# Altium footprint library SOIC.PcbLib: 4 footprints
Each footprint in its own frame and in the unit in brackets; x right, y up, seen from the top. Pads: shape width x height; smd on the part's side, far side on the other; paste and mask are expansions set on the pad; w line width, h text height; cw(c..) or ccw(c..) is an arc to the next point about the centre after c.
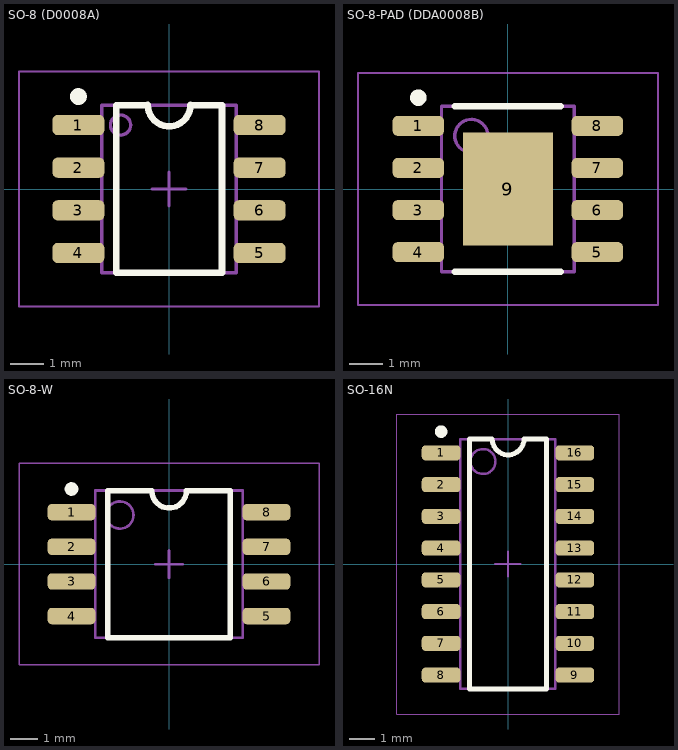
[diagram p0: the footprints below, top view; thin cyan lines are the x and y axes]

## SO-8 (D0008A) [mm] "SOP, 8-Leads, Body 4.91x3.90mm, Pitch 1.27mm, IPC Medium Density"
height 0.25
pads (8):
  rrect50% 1.55x0.6 smd mask+0.05: 1(-2.7,1.905) 2(-2.7,0.635) 3(-2.7,-0.635) 4(-2.7,-1.905) 5(2.7,-1.905) 6(2.7,-0.635) 7(2.7,0.635) 8(2.7,1.905)
Top Overlay:
  circle w0.25: c-2.7,2.755 r0.125
  lines w0.2: 0.639,2.5 1.58,2.5 1.58,-2.5 -1.57,-2.5 -1.57,2.5 -0.631,2.5 -0.631,2.502 ccw(c0.004,2.502) 0.639,2.502
Mechanical 13:
  circle w0.1: c-1.443,1.905 r0.3
  lines w0.1: -2,-2.5 -2,2.5 2,2.5 2,-2.5 -2,-2.5
Mechanical 15:
  lines w0.05: -4.47,-3.5 -4.47,3.5 4.47,3.5 4.47,-3.5 -4.47,-3.5
  lines w0.1: -0.5,0 0.5,0 ; 0,-0.5 0,0.5
3D body "SOP127P600-8N.step": height 1.75, standoff 0, extent -2.997,-2.5 2.997,2.5

## SO-8-PAD (DDA0008B) [mm] "SOP, 8-Leads, Body 4.90x3.90mm, Pitch 1.27mm, Thermal Pad 3.40x2.71mm, IPC Medium Density"
height 0.25
pads (9):
  rrect50% 1.55x0.6 smd mask+0.05: 1(-2.7,1.905) 2(-2.7,0.635) 3(-2.7,-0.635) 4(-2.7,-1.905) 5(2.7,-1.905) 6(2.7,-0.635) 7(2.7,0.635) 8(2.7,1.905)
  rect 2.71x3.4 smd: 9(0,0)
Top Overlay:
  circle w0.25: c-2.7,2.755 r0.125
  lines w0.2: -1.6,-2.5 1.6,-2.5 ; -1.6,2.5 1.6,2.5
Mechanical 13:
  circle w0.1: c-1.1,1.6 r0.5
  lines w0.1: -2,-2.5 -2,2.5 2,2.5 2,-2.5 -2,-2.5
Mechanical 15:
  lines w0.05: -4.52,-3.5 -4.52,3.5 4.53,3.5 4.53,-3.5 -4.52,-3.5
  lines w0.1: -0.5,0 0.5,0 ; 0,-0.5 0,0.5
3D body "SOP127P600-8N.step": height 1.7, standoff 0, extent -2.997,-2.5 2.997,2.5

## SO-8-W [mm] "SO (208-mil), 8-Leads, Body 5.24x5.29mm, Pitch 1.27mm, IPC Medium Density"
height 2.16
pads (8):
  rrect50% 1.75x0.6 smd mask+0.05: 1(-3.575,1.905) 2(-3.575,0.635) 3(-3.575,-0.635) 4(-3.575,-1.905) 5(3.575,-1.905) 6(3.575,-0.635) 7(3.575,0.635) 8(3.575,1.905)
Top Overlay:
  circle w0.25: c-3.575,2.755 r0.125
  lines w0.2: -2.25,-2.7 2.25,-2.7 2.25,2.692 0.639,2.692 cw(c0.004,2.692) -0.631,2.692 -2.25,2.692 -2.25,-2.7
Mechanical 13:
  circle w0.1: c-1.8,1.8 r0.5
  lines w0.1: -2.7,-2.7 2.7,-2.7 2.7,2.7 -2.7,2.7 -2.7,-2.7
Mechanical 15:
  lines w0.05: -5.5,-3.69 5.5,-3.69 5.5,3.7 -5.5,3.7 -5.5,-3.69
  lines w0.1: -0.5,0 0.5,0 ; 0,-0.5 0,0.5
3D body "SO-8-W.step": height 2.16, standoff 0, extent -3.975,-2.7 3.975,2.7

## SO-16N [mm] "SOP, 16-Leads, Body 9.90x3.90mm, Pitch 1.27mm, IPC Medium Density"
height 1.75
pads (16):
  rrect50% 1.55x0.6 smd mask+0.05: 1(-2.675,4.445) 2(-2.675,3.175) 3(-2.675,1.905) 4(-2.675,0.635) 5(-2.675,-0.635) 6(-2.675,-1.905) 7(-2.675,-3.175) 8(-2.675,-4.445) 9(2.675,-4.445) 10(2.675,-3.175) 11(2.675,-1.905) 12(2.675,-0.635) 13(2.675,0.635) 14(2.675,1.905) 15(2.675,3.175) 16(2.675,4.445)
Top Overlay:
  circle w0.25: c-2.675,5.295 r0.125
  lines w0.2: -0.631,5 -1.55,5 -1.55,-5 1.55,-5 1.55,5 0.639,5 ; -0.631,5.002 ccw(c0.004,5.002) 0.639,5.002
Mechanical 13:
  circle w0.1: c-1,4.1 r0.5
  lines w0.1: -1.9,-5 1.9,-5 1.9,5 -1.9,5 -1.9,-5
Mechanical 15:
  lines w0.05: -4.45,-6 4.45,-6 4.45,6 -4.45,6 -4.45,-6
  lines w0.1: -0.5,0 0.5,0 ; 0,-0.5 0,0.5
3D body "SO-16N.step": height 1.75, standoff 0, extent -3,-5 3,5